# EAGLE library part W25Q128JVSIQ_TR (library W25Q128JVSIQ_TR)
FLASH - NOR Memory IC 128Mb (16M x 8) SPI - Quad I/O 8-SOIC Source: Datasheet <http://www.winbond.com/resource-files/w25q128jv spi revc 11162016.pdf>
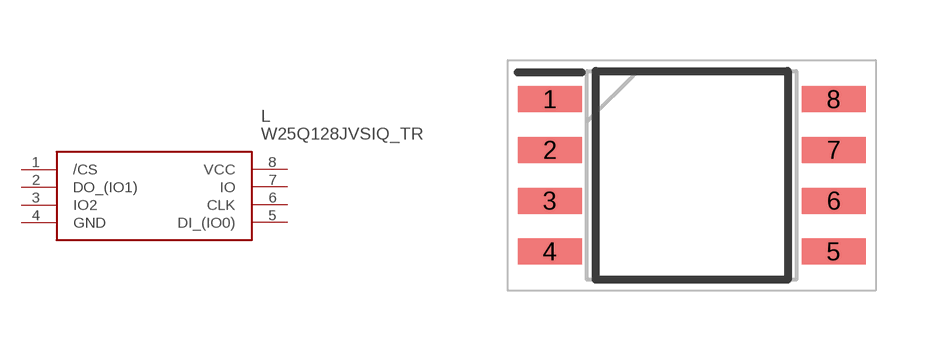
[diagram p0: symbol with the pads of SOIC127P780X195-8N; footprint SOIC127P780X195-8N]

Designator prefix L

## W25Q128JVSIQ_TR (Description: FLASH - NOR Memory IC 128Mb (16M x 8) SPI - Quad I/O 8-SOIC; Height: 1.95mm; Manufacturer_Name: Winbond; Manufacturer_Part_Number: W25Q128JVSIQ TR; Mouser_Part_Number: 454-W25Q128JVSIQTR; Mouser_Price-Stock: https://www.mouser.co.uk/ProductDetail/Winbond/W25Q128JVSIQ-TR?qs=qSfuJ%252Bfl%2Fd7vTyLA9kNdGw%3D%3D)  [SOIC127P780X195-8N]
1  /CS
2  DO_(IO1)
3  IO2
4  GND
5  DI_(IO0)
6  CLK
7  IO
8  VCC

## Footprint SOIC127P780X195-8N (pad centres in mm)
8-Pin SOIC 208-mil (Package Code S)
smd 1.6 x 0.65: 1 -3.55,1.905; 2 -3.55,0.635; 3 -3.55,-0.635; 4 -3.55,-1.905; 5 3.55,-1.905; 6 3.55,-0.635; 7 3.55,0.635; 8 3.55,1.905